# Altium footprint library Coper.PcbLib: 37 footprints (part 3 of 3)
Each footprint in its own frame and in the unit in brackets; x right, y up, seen from the top. Pads: shape width x height; smd on the part's side, far side on the other; paste and mask are expansions set on the pad; w line width, h text height; cw(c..) or ccw(c..) is an arc to the next point about the centre after c.
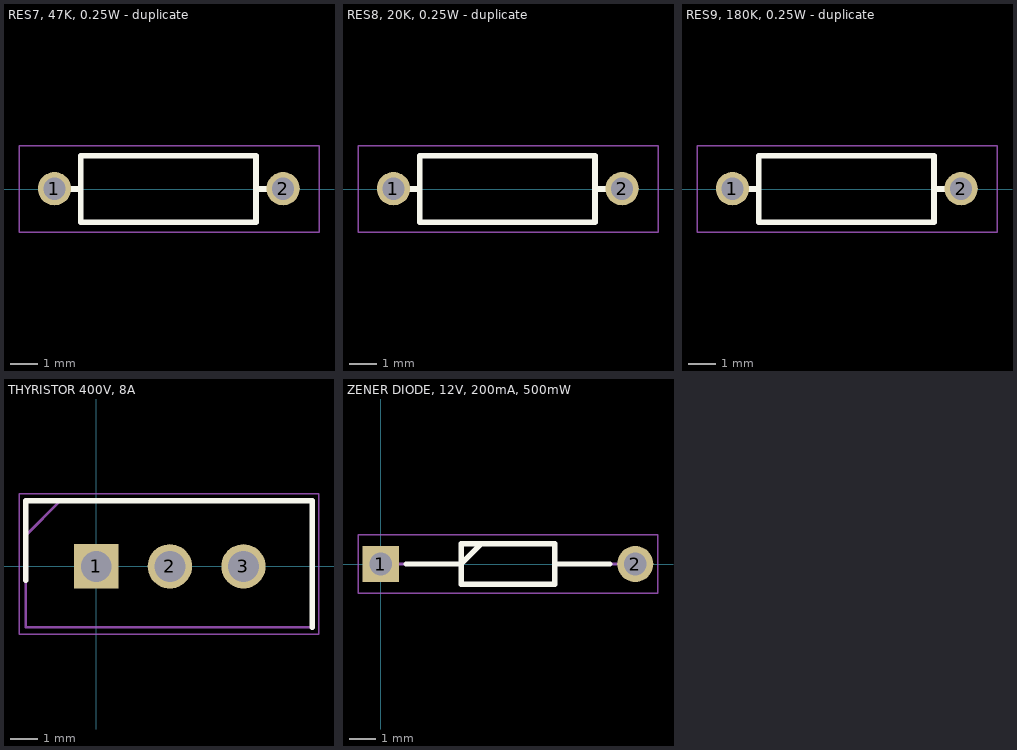
[diagram p2: the footprints below, top view; thin cyan lines are the x and y axes]

## RES7, 47K, 0.25W - duplicate [mm]
pads (2):
  round 1.2 hole 0.8: 1(3.853,0.011) 2(12.074,0.011)
Top Overlay:
  lines w0.2: 3.803,0 4.8,0 ; 11.1,0 12.074,0 ; 4.8,-1.2 4.8,1.2 11.1,1.2 11.1,-1.2 4.8,-1.2
Mechanical 13:
  lines w0.1: 3.853,0 4.8,0 ; 11.1,0 12.007,0 ; 4.8,-1.2 4.8,1.2 11.1,1.2 11.1,-1.2 4.8,-1.2
Mechanical 15:
  lines w0.05: 2.578,-1.55 2.578,1.55 13.366,1.55 13.366,-1.55 2.578,-1.55

## RES8, 20K, 0.25W - duplicate [mm]
pads (2):
  round 1.2 hole 0.8: 1(3.853,0.011) 2(12.074,0.011)
Top Overlay:
  lines w0.2: 3.803,0 4.8,0 ; 11.1,0 12.074,0 ; 4.8,-1.2 4.8,1.2 11.1,1.2 11.1,-1.2 4.8,-1.2
Mechanical 13:
  lines w0.1: 3.853,0 4.8,0 ; 11.1,0 12.007,0 ; 4.8,-1.2 4.8,1.2 11.1,1.2 11.1,-1.2 4.8,-1.2
Mechanical 15:
  lines w0.05: 2.578,-1.55 2.578,1.55 13.366,1.55 13.366,-1.55 2.578,-1.55

## RES9, 180K, 0.25W - duplicate [mm]
pads (2):
  round 1.2 hole 0.8: 1(3.853,0.011) 2(12.074,0.011)
Top Overlay:
  lines w0.2: 3.803,0 4.8,0 ; 11.1,0 12.074,0 ; 4.8,-1.2 11.1,-1.2 11.1,1.2 4.8,1.2 4.8,-1.2
Mechanical 13:
  lines w0.1: 3.853,0 4.8,0 ; 11.1,0 12.007,0 ; 4.8,-1.2 11.1,-1.2 11.1,1.2 4.8,1.2 4.8,-1.2
Mechanical 15:
  lines w0.05: 2.578,-1.55 13.366,-1.55 13.366,1.55 2.578,1.55 2.578,-1.55

## THYRISTOR 400V, 8A [mm]
pads (3):
  rect 1.63x1.63 hole 1.13: 1(0,0)
  round 1.63 hole 1.13: 2(2.7,0) 3(5.4,0)
Top Overlay:
  lines w0.2: -2.588,-0.508 -2.588,2.412 7.922,2.412 7.922,-2.238
Mechanical 13:
  lines w0.1: -2.588,1.142 -1.318,2.412 ; -2.588,-2.238 7.922,-2.238 7.922,2.412 -2.588,2.412 -2.588,-2.238
Mechanical 15:
  lines w0.05: -2.838,-2.488 8.172,-2.488 8.172,2.662 -2.838,2.662 -2.838,-2.488
3D body "16TTS08SPBF.stp": height 18.67, standoff -17.4, extent -2.488,-2.238 7.822,2.412

## ZENER DIODE, 12V, 200mA, 500mW [mm]
pads (2):
  rect 1.35x1.35 hole 0.85: 1(0,0)
  round 1.35 hole 0.85: 2(9.5,0)
Top Overlay:
  lines w0.2: 0.95,0 3,0 3.75,0.75 ; 6.5,0 8.55,0 ; 3,-0.75 6.5,-0.75 6.5,0.75 3,0.75 3,-0.75
Mechanical 13:
  lines w0.1: 0,0 3,0 3.75,0.75 ; 6.5,0 9.5,0 ; 3,-0.75 6.5,-0.75 6.5,0.75 3,0.75 3,-0.75
Mechanical 15:
  lines w0.05: -0.85,-1.1 10.35,-1.1 10.35,1.1 -0.85,1.1 -0.85,-1.1
3D body "BZX55C12-TAP.stp": height 1.69, standoff -1.7, extent -0.298,-0.848 9.8,0.848